# Altium footprint library holes.PCBLIB: 10 footprints
Each footprint in its own frame and in the unit in brackets; x right, y up, seen from the top. Pads: shape width x height; smd on the part's side, far side on the other; paste and mask are expansions set on the pad; w line width, h text height; cw(c..) or ccw(c..) is an arc to the next point about the centre after c.
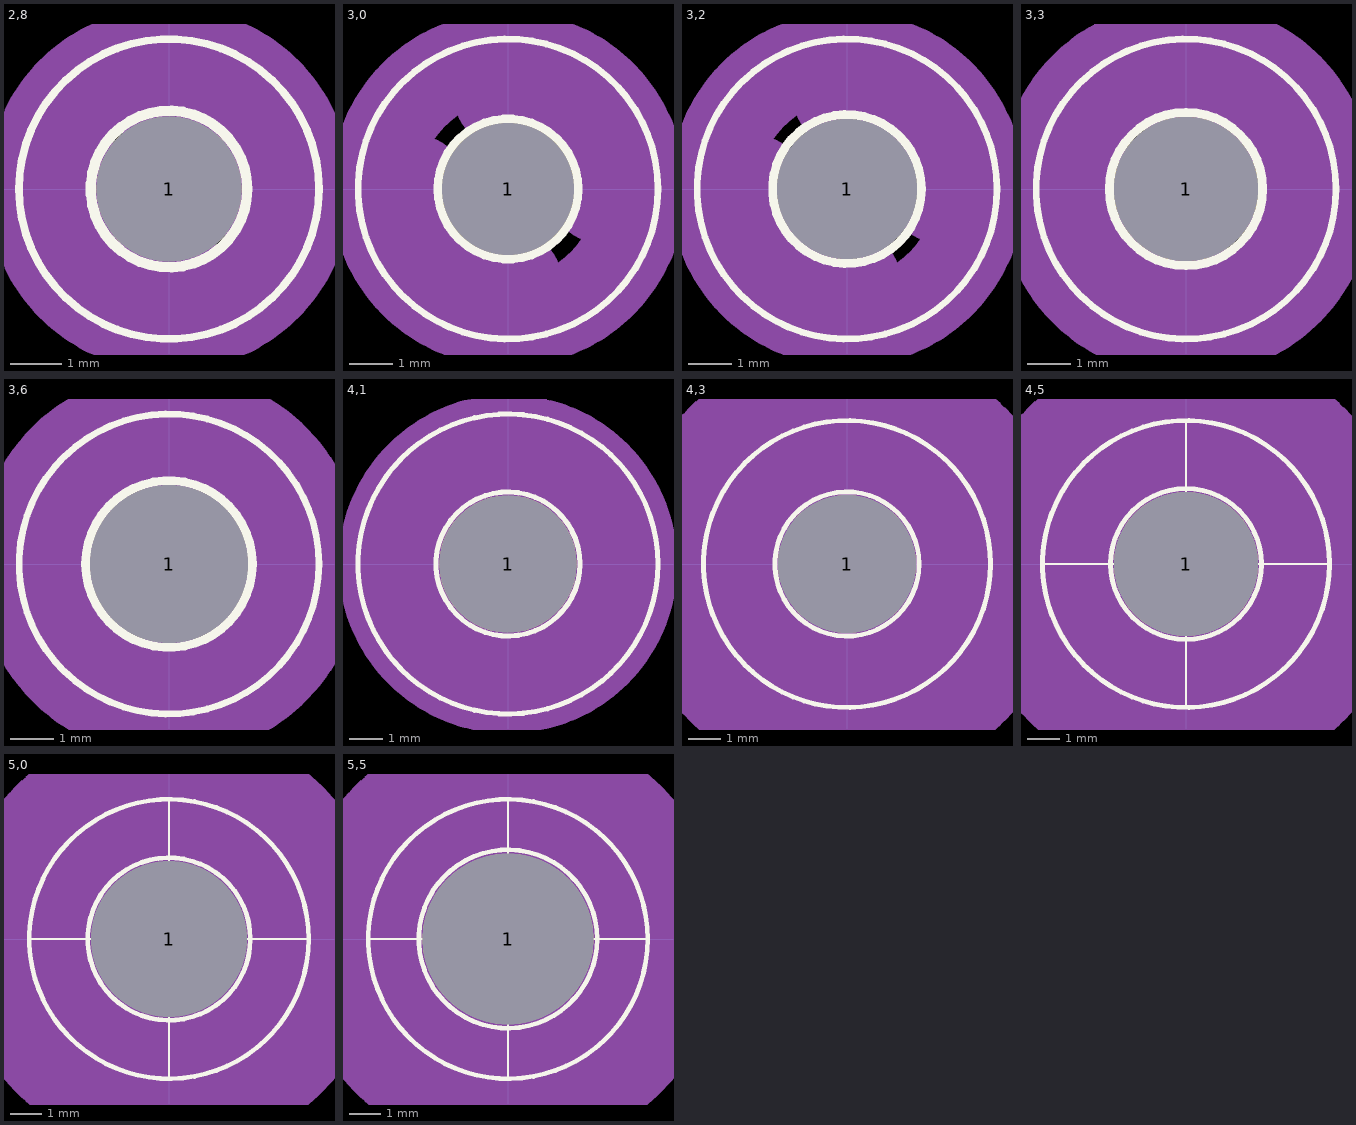
[diagram p0: the footprints below, top view; thin cyan lines are the x and y axes]

## 2,8 [mil]
pads (1):
  round 111 hole 111: 1(0,0)
Top Overlay:
  circle w6: c0,0 r115
  circle w8: c0,0 r60
Mechanical 8:
  circle w80: c0,0 r100
Mechanical 9:
  circle w80: c0,0 r100
Mechanical 10:
  circle w80: c0,0 r100
Mechanical 16:
  circle w18: c0,0 r25
  lines w90: -70,0 ccw(c0,0) 0,-70 ; 0,70 cw(c0,0) 70,0
Mech37:
  circle w80: c0,0 r100
Mech39:
  circle w80: c0,0 r100

## 3,0 [mil]
pads (1):
  round 119 hole 119: 1(0,0)
Top Overlay:
  circle w6: c0,0 r135
  circle w8: c0,0 r63
Mechanical 8:
  circle w80: c0,0 r120
Mechanical 9:
  circle w80: c0,0 r120
Mechanical 10:
  circle w80: c0,0 r120
Mechanical 13:
  text "3,0" at -50,-150 h77.5
Mechanical 16:
  circle w18: c0,0 r30
  lines w98: -85,0 ccw(c0,0) 0,-85 ; 0,85 cw(c0,0) 85,0
Mech37:
  circle w80: c0,0 r120
Mech39:
  circle w80: c0,0 r120

## 3,2 [mil]
pads (1):
  round 126 hole 126: 1(0,0)
Top Overlay:
  circle w6: c0,0 r135
  circle w8: c0,0 r67
Mechanical 8:
  circle w80: c0,0 r120
Mechanical 9:
  circle w80: c0,0 r120
Mechanical 10:
  circle w80: c0,0 r120
Mechanical 16:
  circle w18: c0,0 r30
  lines w98: -85,0 ccw(c0,0) 0,-85 ; 0,85 cw(c0,0) 85,0
Mech37:
  circle w80: c0,0 r120
Mech39:
  circle w80: c0,0 r120

## 3,3 [mil]
pads (1):
  round 130 hole 130: 1(0,0)
Top Overlay:
  circle w6: c0,0 r135
  circle w8: c0,0 r69
Mechanical 8:
  circle w80: c0,0 r120
Mechanical 9:
  circle w80: c0,0 r120
Mechanical 10:
  circle w80: c0,0 r120
Mechanical 16:
  circle w18: c0,0 r30
  lines w98: -85,0 ccw(c0,0) 0,-85 ; 0,85 cw(c0,0) 85,0
Mech37:
  circle w100: c0,0 r120
Mech39:
  circle w100: c0,0 r120

## 3,6 [mil]
pads (1):
  round 142 hole 142: 1(0,0)
Top Overlay:
  circle w6: c0,0 r135
  circle w8: c0,0 r75
Mechanical 8:
  circle w80: c0,0 r120
Mechanical 9:
  circle w80: c0,0 r120
Mechanical 10:
  circle w80: c0,0 r120
Mechanical 16:
  circle w18: c0,0 r30
  lines w98: -85,0 ccw(c0,0) 0,-85 ; 0,85 cw(c0,0) 85,0
Mech37:
  circle w109: c0,0 r120
Mech39:
  circle w109: c0,0 r120

## 4,1 [mil]
pads (1):
  round 162 hole 162: 1(0,0)
Top Overlay:
  circle w6: c0,0 r177
  circle w6: c0,0 r85
Mechanical 8:
  circle w100: c0,0 r150
Mechanical 9:
  circle w100: c0,0 r150
Mechanical 10:
  circle w100: c0,0 r150
Mechanical 16:
  circle w18: c0,0 r30
  lines w154: -100,0 ccw(c0,0) 0,-100 ; 0,100 cw(c0,0) 100,0
Mech37:
  circle w100: c0,0 r150
Mech39:
  circle w100: c0,0 r150

## 4,3 [mil]
pads (1):
  round 170 hole 170: 1(0,0)
Top Overlay:
  circle w6: c0,0 r177
  circle w6: c0,0 r89
Mechanical 8:
  circle w100: c0,0 r151
Mechanical 9:
  circle w100: c0,0 r150
Mechanical 10:
  circle w100: c0,0 r150
Mechanical 16:
  circle w6: c0,0 r30
  lines w154: -100,0 ccw(c0,0) 0,-100 ; 0,100 cw(c0,0) 100,0
Mech37:
  circle w179: c0,0 r185
Mech39:
  circle w179: c0,0 r185

## 4,5 [mil]
pads (1):
  round 178 hole 178: 1(0,0)
Top Overlay:
  circle w6: c0,0 r177
  circle w6: c0,0 r93
  lines w2: -175,0 -85,0 ; 0,-175 0,-85 ; 0,85 0,175 ; 85,0 175,0
Mechanical 8:
  circle w100: c0,0 r151
Mechanical 9:
  circle w100: c0,0 r150
Mechanical 10:
  circle w100: c0,0 r150
Mechanical 13:
  text "4,5" at -50,-175 h77.5
Mechanical 16:
  circle w18: c0,0 r30
  lines w154: -100,0 ccw(c0,0) 0,-100 ; 0,100 cw(c0,0) 100,0
Mech37:
  circle w179: c0,0 r185
Mech39:
  circle w179: c0,0 r185

## 5,0 [mil]
pads (1):
  round 197 hole 197: 1(0,0)
Top Overlay:
  circle w6: c0,0 r177
  circle w6: c0,0 r103
  lines w2: -175,0 -85,0 ; 0,-175 0,-85 ; 0,85 0,175 ; 85,0 175,0
Mechanical 8:
  circle w100: c0,0 r190
Mechanical 9:
  circle w100: c0,0 r190
Mechanical 10:
  circle w100: c0,0 r190
Mechanical 13:
  text "5,0" at -50,-175 h77.5
Mechanical 16:
  circle w18: c0,0 r30
  lines w154: -100,0 ccw(c0,0) 0,-100 ; 0,100 cw(c0,0) 100,0
Mech37:
  circle w179: c0,0 r185
Mech39:
  circle w179: c0,0 r185

## 5,5 [mil]
pads (1):
  round 217 hole 217: 1(0,0)
Top Overlay:
  circle w6: c0,0 r177
  circle w6: c0,0 r113
  lines w2: -175,0 -85,0 ; 0,-175 0,-85 ; 0,85 0,175 ; 85,0 175,0
Mechanical 8:
  circle w100: c0,0 r190
Mechanical 9:
  circle w100: c0,0 r190
Mechanical 10:
  circle w100: c0,0 r190
Mechanical 16:
  circle w18: c0,0 r30
  lines w154: -100,0 ccw(c0,0) 0,-100 ; 0,100 cw(c0,0) 100,0
Mech37:
  circle w179: c0,0 r185
Mech39:
  circle w179: c0,0 r185